# Altium integrated library Wuerth Elektronik SMD Power Choke.IntLib: 844 symbols (part 4 of 9)
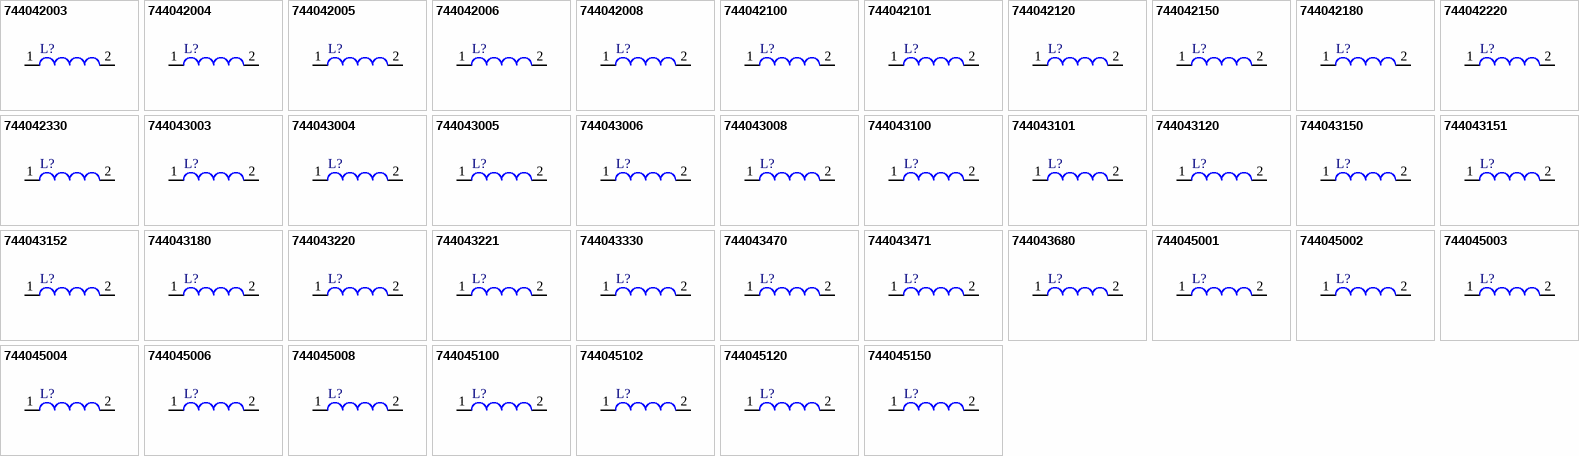
[diagram p25: symbols 744042003 to 744045150]

## 744042330
designator L?
SMD Shielded Tiny Power Inductor WE-TPC, L = 33.0 µH; Inductance: 33.0 µH; DatasheetVersion: ver 6, Aug-2010; PackageVersion: 2010; PackageReference: WE-TPC-4818-M; PackageDescription: SMD Inductor, 2-Leads, Body 4.8 x 4.8 mm; ComponentLink1Description: Manufacturer URL; ComponentLink1URL: http://www.we-online.com; ComponentLink2Description: Datasheet; ComponentLink2URL: http://www.we-online.de/katalog/media/pdf/744042330.pdf
footprint WE-TPC-4818-M (SMD Inductor, 2-Leads, Body 4.8x4.8x2.0 mm)
pins: 1, 2

## 744043003
designator L?
SMD Shielded Tiny Power Inductor WE-TPC, L = 3.30µH; DatasheetVersion: ver 6, Aug-2010; PackageVersion: 2010; PackageReference: WE-TPC-4828-MH; PackageDescription: SMD Inductor, 2-Leads, Body 4.8 x 4.8 mm; Inductance: 3.30 µH; ComponentLink1Description: Manufacturer URL; ComponentLink1URL: http://www.we-online.com; ComponentLink2Description: Datasheet; ComponentLink2URL: http://www.we-online.de/katalog/media/pdf/744043003.pdf
footprint WE-TPC-4828-MH (SMD Inductor, 2-Leads, Body 4.8x4.8x3.0 mm)
pins: 1, 2

## 744043004
designator L?
SMD Shielded Tiny Power Inductor WE-TPC, L = 4.70 µH; Inductance: 4.70 µH; DatasheetVersion: ver 6, Aug-2010; PackageVersion: 2010; PackageReference: WE-TPC-4828-MH; PackageDescription: SMD Inductor, 2-Leads, Body 4.8 x 4.8 mm; ComponentLink1Description: Manufacturer URL; ComponentLink1URL: http://www.we-online.com; ComponentLink2Description: Datasheet; ComponentLink2URL: http://www.we-online.de/katalog/media/pdf/744043004.pdf
footprint WE-TPC-4828-MH (SMD Inductor, 2-Leads, Body 4.8x4.8x3.0 mm)
pins: 1, 2

## 744043005
designator L?
SMD Shielded Tiny Power Inductor WE-TPC, L = 5.60 µH; Inductance: 5.60 µH; DatasheetVersion: ver 6, Aug-2010; PackageVersion: 2010; PackageReference: WE-TPC-4828-MH; PackageDescription: SMD Inductor, 2-Leads, Body 4.8 x 4.8 mm; ComponentLink1Description: Manufacturer URL; ComponentLink1URL: http://www.we-online.com; ComponentLink2Description: Datasheet; ComponentLink2URL: http://www.we-online.de/katalog/media/pdf/744043005.pdf
footprint WE-TPC-4828-MH (SMD Inductor, 2-Leads, Body 4.8x4.8x3.0 mm)
pins: 1, 2

## 744043006
designator L?
SMD Shielded Tiny Power Inductor WE-TPC, L = 6.80 µH; Inductance: 6.80 µH; DatasheetVersion: ver 6, Aug-2010; PackageVersion: 2010; PackageReference: WE-TPC-4828-MH; PackageDescription: SMD Inductor, 2-Leads, Body 4.8 x 4.8 mm; ComponentLink1Description: Manufacturer URL; ComponentLink1URL: http://www.we-online.com; ComponentLink2Description: Datasheet; ComponentLink2URL: http://www.we-online.de/katalog/media/pdf/744043006.pdf
footprint WE-TPC-4828-MH (SMD Inductor, 2-Leads, Body 4.8x4.8x3.0 mm)
pins: 1, 2

## 744043008
designator L?
SMD Shielded Tiny Power Inductor WE-TPC, L = 8.20 µH; Inductance: 8.20 µH; DatasheetVersion: ver 6, Aug-2010; PackageVersion: 2010; PackageReference: WE-TPC-4828-MH; PackageDescription: SMD Inductor, 2-Leads, Body 4.8 x 4.8 mm; ComponentLink1Description: Manufacturer URL; ComponentLink1URL: http://www.we-online.com; ComponentLink2Description: Datasheet; ComponentLink2URL: http://www.we-online.de/katalog/media/pdf/744043008.pdf
footprint WE-TPC-4828-MH (SMD Inductor, 2-Leads, Body 4.8x4.8x3.0 mm)
pins: 1, 2

## 744043100
designator L?
SMD Shielded Tiny Power Inductor WE-TPC, L = 10.0 µH; Inductance: 10.0 µH; DatasheetVersion: ver 6, Aug-2010; PackageVersion: 2010; PackageReference: WE-TPC-4828-MH; PackageDescription: SMD Inductor, 2-Leads, Body 4.8 x 4.8 mm; ComponentLink1Description: Manufacturer URL; ComponentLink1URL: http://www.we-online.com; ComponentLink2Description: Datasheet; ComponentLink2URL: http://www.we-online.de/katalog/media/pdf/744043100.pdf
footprint WE-TPC-4828-MH (SMD Inductor, 2-Leads, Body 4.8x4.8x3.0 mm)
pins: 1, 2

## 744043101
designator L?
SMD Shielded Tiny Power Inductor WE-TPC, L = 100 µH; Inductance: 100 µH; DatasheetVersion: ver 6, Aug-2010; PackageVersion: 2010; PackageReference: WE-TPC-4828-MH; PackageDescription: SMD Inductor, 2-Leads, Body 4.8 x 4.8 mm; ComponentLink1Description: Manufacturer URL; ComponentLink1URL: http://www.we-online.com; ComponentLink2Description: Datasheet; ComponentLink2URL: http://www.we-online.de/katalog/media/pdf/744043101.pdf
footprint WE-TPC-4828-MH (SMD Inductor, 2-Leads, Body 4.8x4.8x3.0 mm)
pins: 1, 2

## 744043120
designator L?
SMD Shielded Tiny Power Inductor WE-TPC, L = 12.0 µH; Inductance: 12.0 µH; DatasheetVersion: ver 6, Aug-2010; PackageVersion: 2010; PackageReference: WE-TPC-4828-MH; PackageDescription: SMD Inductor, 2-Leads, Body 4.8 x 4.8 mm; ComponentLink1Description: Manufacturer URL; ComponentLink1URL: http://www.we-online.com; ComponentLink2Description: Datasheet; ComponentLink2URL: http://www.we-online.de/katalog/media/pdf/744043120.pdf
footprint WE-TPC-4828-MH (SMD Inductor, 2-Leads, Body 4.8x4.8x3.0 mm)
pins: 1, 2

## 744043150
designator L?
SMD Shielded Tiny Power Inductor WE-TPC, L = 15.0 µH; Inductance: 15.0 µH; DatasheetVersion: ver 6, Aug-2010; PackageVersion: 2010; PackageReference: WE-TPC-4828-MH; PackageDescription: SMD Inductor, 2-Leads, Body 4.8 x 4.8 mm; ComponentLink1Description: Manufacturer URL; ComponentLink1URL: http://www.we-online.com; ComponentLink2Description: Datasheet; ComponentLink2URL: http://www.we-online.de/katalog/media/pdf/744043150.pdf
footprint WE-TPC-4828-MH (SMD Inductor, 2-Leads, Body 4.8x4.8x3.0 mm)
pins: 1, 2

## 744043151
designator L?
SMD Shielded Tiny Power Inductor WE-TPC, L = 150 µH; Inductance: 150 µH; DatasheetVersion: ver 6, Aug-2010; PackageVersion: 2010; PackageReference: WE-TPC-4828-MH; PackageDescription: SMD Inductor, 2-Leads, Body 4.8 x 4.8 mm; ComponentLink1Description: Manufacturer URL; ComponentLink1URL: http://www.we-online.com; ComponentLink2Description: Datasheet; ComponentLink2URL: http://www.we-online.de/katalog/media/pdf/744043151.pdf
footprint WE-TPC-4828-MH (SMD Inductor, 2-Leads, Body 4.8x4.8x3.0 mm)
pins: 1, 2

## 744043152
designator L?
SMD Shielded Tiny Power Inductor WE-TPC, L = 1500 µH; Inductance: 1500 µH; DatasheetVersion: ver 6, Aug-2010; PackageVersion: 2010; PackageReference: WE-TPC-4828-MH; PackageDescription: SMD Inductor, 2-Leads, Body 4.8 x 4.8 mm; ComponentLink1Description: Manufacturer URL; ComponentLink1URL: http://www.we-online.com; ComponentLink2Description: Datasheet; ComponentLink2URL: http://www.we-online.de/katalog/media/pdf/744043152.pdf
footprint WE-TPC-4828-MH (SMD Inductor, 2-Leads, Body 4.8x4.8x3.0 mm)
pins: 1, 2

## 744043180
designator L?
SMD Shielded Tiny Power Inductor WE-TPC, L = 18.0 µH; Inductance: 18.0 µH; DatasheetVersion: ver 6, Aug-2010; PackageVersion: 2010; PackageReference: WE-TPC-4828-MH; PackageDescription: SMD Inductor, 2-Leads, Body 4.8 x 4.8 mm; ComponentLink1Description: Manufacturer URL; ComponentLink1URL: http://www.we-online.com; ComponentLink2Description: Datasheet; ComponentLink2URL: http://www.we-online.de/katalog/media/pdf/744043180.pdf
footprint WE-TPC-4828-MH (SMD Inductor, 2-Leads, Body 4.8x4.8x3.0 mm)
pins: 1, 2

## 744043220
designator L?
SMD Shielded Tiny Power Inductor WE-TPC, L = 22.0 µH; Inductance: 22.0 µH; DatasheetVersion: ver 6, Aug-2010; PackageVersion: 2010; PackageReference: WE-TPC-4828-MH; PackageDescription: SMD Inductor, 2-Leads, Body 4.8 x 4.8 mm; ComponentLink1Description: Manufacturer URL; ComponentLink1URL: http://www.we-online.com; ComponentLink2Description: Datasheet; ComponentLink2URL: http://www.we-online.de/katalog/media/pdf/744043220.pdf
footprint WE-TPC-4828-MH (SMD Inductor, 2-Leads, Body 4.8x4.8x3.0 mm)
pins: 1, 2

## 744043221
designator L?
SMD Shielded Tiny Power Inductor WE-TPC, L = 220 µH; Inductance: 220 µH; DatasheetVersion: ver 6, Aug-2010; PackageVersion: 2010; PackageReference: WE-TPC-4828-MH; PackageDescription: SMD Inductor, 2-Leads, Body 4.8 x 4.8 mm; ComponentLink1Description: Manufacturer URL; ComponentLink1URL: http://www.we-online.com; ComponentLink2Description: Datasheet; ComponentLink2URL: http://www.we-online.de/katalog/media/pdf/744043221.pdf
footprint WE-TPC-4828-MH (SMD Inductor, 2-Leads, Body 4.8x4.8x3.0 mm)
pins: 1, 2

## 744043330
designator L?
SMD Shielded Tiny Power Inductor WE-TPC, L = 33.0 µH; Inductance: 33.0 µH; DatasheetVersion: ver 6, Aug-2010; PackageVersion: 2010; PackageReference: WE-TPC-4828-MH; PackageDescription: SMD Inductor, 2-Leads, Body 4.8 x 4.8 mm; ComponentLink1Description: Manufacturer URL; ComponentLink1URL: http://www.we-online.com; ComponentLink2Description: Datasheet; ComponentLink2URL: http://www.we-online.de/katalog/media/pdf/744043330.pdf
footprint WE-TPC-4828-MH (SMD Inductor, 2-Leads, Body 4.8x4.8x3.0 mm)
pins: 1, 2

## 744043470
designator L?
SMD Shielded Tiny Power Inductor WE-TPC, L = 47.0 µH; Inductance: 47.0 µH; DatasheetVersion: ver 6, Aug-2010; PackageVersion: 2010; PackageReference: WE-TPC-4828-MH; PackageDescription: SMD Inductor, 2-Leads, Body 4.8 x 4.8 mm; ComponentLink1Description: Manufacturer URL; ComponentLink1URL: http://www.we-online.com; ComponentLink2Description: Datasheet; ComponentLink2URL: http://www.we-online.de/katalog/media/pdf/744043470.pdf
footprint WE-TPC-4828-MH (SMD Inductor, 2-Leads, Body 4.8x4.8x3.0 mm)
pins: 1, 2

## 744043471
designator L?
SMD Shielded Tiny Power Inductor WE-TPC, L = 470 µH; Inductance: 470 µH; DatasheetVersion: ver 6, Aug-2010; PackageVersion: 2010; PackageReference: WE-TPC-4828-MH; PackageDescription: SMD Inductor, 2-Leads, Body 4.8 x 4.8 mm; ComponentLink1Description: Manufacturer URL; ComponentLink1URL: http://www.we-online.com; ComponentLink2Description: Datasheet; ComponentLink2URL: http://www.we-online.de/katalog/media/pdf/744043471.pdf
footprint WE-TPC-4828-MH (SMD Inductor, 2-Leads, Body 4.8x4.8x3.0 mm)
pins: 1, 2

## 744043680
designator L?
SMD Shielded Tiny Power Inductor WE-TPC, L = 68.0 µH; Inductance: 68.0 µH; DatasheetVersion: ver 6, Aug-2010; PackageVersion: 2010; PackageReference: WE-TPC-4828-MH; PackageDescription: SMD Inductor, 2-Leads, Body 4.8 x 4.8 mm; ComponentLink1Description: Manufacturer URL; ComponentLink1URL: http://www.we-online.com; ComponentLink2Description: Datasheet; ComponentLink2URL: http://www.we-online.de/katalog/media/pdf/744043680.pdf
footprint WE-TPC-4828-MH (SMD Inductor, 2-Leads, Body 4.8x4.8x3.0 mm)
pins: 1, 2

## 744045001
designator L?
SMD-RF-Inductor WE-LQ, L = 1.00 µH; Inductance: 1.00 µH; DatasheetVersion: ver 3, Jul-2006; PackageVersion: 2006; PackageReference: WE-LQ-L; PackageDescription: Inductor, 2-Leads, Body 4.5 x 3.2 mm; ComponentLink1Description: Manufacturer URL; ComponentLink1URL: http://www.we-online.com; ComponentLink2Description: Datasheet; ComponentLink2URL: http://www.we-online.de/katalog/media/pdf/744045001.pdf
footprint WE-LQ-L (Inductor, 2-Leads, Body 4.5x3.2x2.9 mm)
pins: 1, 2

## 744045002
designator L?
SMD-RF-Inductor WE-LQ, L = 2.20 µH; Inductance: 2.20 µH; DatasheetVersion: ver 3, Jul-2006; PackageVersion: 2006; PackageReference: WE-LQ-L; PackageDescription: Inductor, 2-Leads, Body 4.5 x 3.2 mm; ComponentLink1Description: Manufacturer URL; ComponentLink1URL: http://www.we-online.com; ComponentLink2Description: Datasheet; ComponentLink2URL: http://www.we-online.de/katalog/media/pdf/744045002.pdf
footprint WE-LQ-L (Inductor, 2-Leads, Body 4.5x3.2x2.9 mm)
pins: 1, 2

## 744045003
designator L?
SMD-RF-Inductor WE-LQ, L = 3.30 µH; Inductance: 3.30 µH; DatasheetVersion: ver 3, Jul-2006; PackageVersion: 2006; PackageReference: WE-LQ-L; PackageDescription: Inductor, 2-Leads, Body 4.5 x 3.2 mm; ComponentLink1Description: Manufacturer URL; ComponentLink1URL: http://www.we-online.com; ComponentLink2Description: Datasheet; ComponentLink2URL: http://www.we-online.de/katalog/media/pdf/744045003.pdf
footprint WE-LQ-L (Inductor, 2-Leads, Body 4.5x3.2x2.9 mm)
pins: 1, 2

## 744045004
designator L?
SMD-RF-Inductor WE-LQ, L = 4.70 µH; Inductance: 4.70 µH; DatasheetVersion: ver 3, Jul-2006; PackageVersion: 2006; PackageReference: WE-LQ-L; PackageDescription: Inductor, 2-Leads, Body 4.5 x 3.2 mm; ComponentLink1Description: Manufacturer URL; ComponentLink1URL: http://www.we-online.com; ComponentLink2Description: Datasheet; ComponentLink2URL: http://www.we-online.de/katalog/media/pdf/744045004.pdf
footprint WE-LQ-L (Inductor, 2-Leads, Body 4.5x3.2x2.9 mm)
pins: 1, 2

## 744045006
designator L?
SMD-RF-Inductor WE-LQ, L = 6.80 µH; Inductance: 6.80 µH; DatasheetVersion: ver 3, Jul-2006; PackageVersion: 2006; PackageReference: WE-LQ-L; PackageDescription: Inductor, 2-Leads, Body 4.5 x 3.2 mm; ComponentLink1Description: Manufacturer URL; ComponentLink1URL: http://www.we-online.com; ComponentLink2Description: Datasheet; ComponentLink2URL: http://www.we-online.de/katalog/media/pdf/744045006.pdf
footprint WE-LQ-L (Inductor, 2-Leads, Body 4.5x3.2x2.9 mm)
pins: 1, 2

## 744045008
designator L?
SMD-RF-Inductor WE-LQ, L = 8.20 µH; Inductance: 8.20 µH; DatasheetVersion: ver 3, Jul-2006; PackageVersion: 2006; PackageReference: WE-LQ-L; PackageDescription: Inductor, 2-Leads, Body 4.5 x 3.2 mm; ComponentLink1Description: Manufacturer URL; ComponentLink1URL: http://www.we-online.com; ComponentLink2Description: Datasheet; ComponentLink2URL: http://www.we-online.de/katalog/media/pdf/744045008.pdf
footprint WE-LQ-L (Inductor, 2-Leads, Body 4.5x3.2x2.9 mm)
pins: 1, 2

## 744045100
designator L?
SMD-RF-Inductor WE-LQ, L = 10.0 µH; Inductance: 10.0 µH; DatasheetVersion: ver 3, Jul-2006; PackageVersion: 2006; PackageReference: WE-LQ-L; PackageDescription: Inductor, 2-Leads, Body 4.5 x 3.2 mm; ComponentLink1Description: Manufacturer URL; ComponentLink1URL: http://www.we-online.com; ComponentLink2Description: Datasheet; ComponentLink2URL: http://www.we-online.de/katalog/media/pdf/744045100.pdf
footprint WE-LQ-L (Inductor, 2-Leads, Body 4.5x3.2x2.9 mm)
pins: 1, 2

## 744045102
designator L?
SMD-RF-Inductor WE-LQ, L = 1000 µH; Inductance: 1000 µH; DatasheetVersion: ver 4, Oct-2008; PackageVersion: 2006; PackageReference: WE-LQ-L; PackageDescription: Inductor, 2-Leads, Body 4.5 x 3.2 mm; ComponentLink1Description: Manufacturer URL; ComponentLink1URL: http://www.we-online.com; ComponentLink2Description: Datasheet; ComponentLink2URL: http://www.we-online.de/katalog/media/pdf/744045102.pdf
footprint WE-LQ-L (Inductor, 2-Leads, Body 4.5x3.2x2.9 mm)
pins: 1, 2

## 744045120
designator L?
SMD-RF-Inductor WE-LQ, L = 12.0 µH; Inductance: 12.0 µH; DatasheetVersion: ver 3, Jul-2006; PackageVersion: 2006; PackageReference: WE-LQ-L; PackageDescription: Inductor, 2-Leads, Body 4.5 x 3.2 mm; ComponentLink1Description: Manufacturer URL; ComponentLink1URL: http://www.we-online.com; ComponentLink2Description: Datasheet; ComponentLink2URL: http://www.we-online.de/katalog/media/pdf/744045120.pdf
footprint WE-LQ-L (Inductor, 2-Leads, Body 4.5x3.2x2.9 mm)
pins: 1, 2

## 744045150
designator L?
SMD-RF-Inductor WE-LQ, L = 15.0 µH; Inductance: 15.0 µH; DatasheetVersion: ver 3, Jul-2006; PackageVersion: 2006; PackageReference: WE-LQ-L; PackageDescription: Inductor, 2-Leads, Body 4.5 x 3.2 mm; ComponentLink1Description: Manufacturer URL; ComponentLink1URL: http://www.we-online.com; ComponentLink2Description: Datasheet; ComponentLink2URL: http://www.we-online.de/katalog/media/pdf/744045150.pdf
footprint WE-LQ-L (Inductor, 2-Leads, Body 4.5x3.2x2.9 mm)
pins: 1, 2

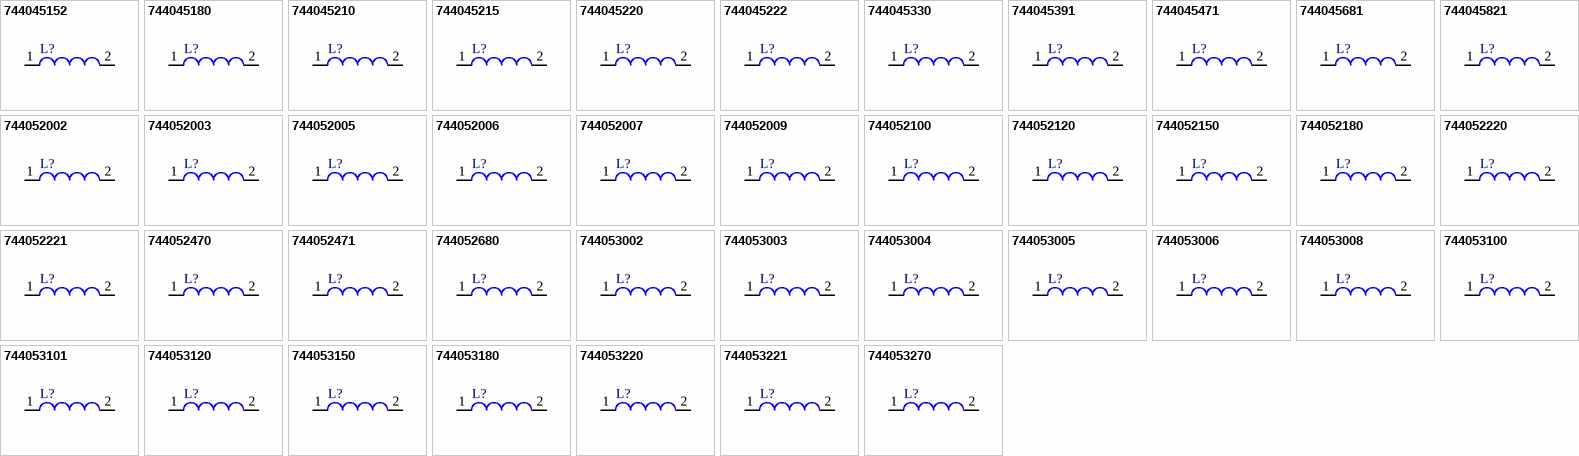
[diagram p8: symbols 744045152 to 744053270]

## 744045152
designator L?
SMD-RF-Inductor WE-LQ, L = 1500 µH; Inductance: 1500 µH; DatasheetVersion: ver 3, Jul-2006; PackageVersion: 2006; PackageReference: WE-LQ-L; PackageDescription: Inductor, 2-Leads, Body 4.5 x 3.2 mm; ComponentLink1Description: Manufacturer URL; ComponentLink1URL: http://www.we-online.com; ComponentLink2Description: Datasheet; ComponentLink2URL: http://www.we-online.de/katalog/media/pdf/744045152.pdf
footprint WE-LQ-L (Inductor, 2-Leads, Body 4.5x3.2x2.9 mm)
pins: 1, 2

## 744045180
designator L?
SMD-RF-Inductor WE-LQ, L = 18.0 µH; Inductance: 18.0 µH; DatasheetVersion: ver 3, Jul-2006; PackageVersion: 2006; PackageReference: WE-LQ-L; PackageDescription: Inductor, 2-Leads, Body 4.5 x 3.2 mm; ComponentLink1Description: Manufacturer URL; ComponentLink1URL: http://www.we-online.com; ComponentLink2Description: Datasheet; ComponentLink2URL: http://www.we-online.de/katalog/media/pdf/744045180.pdf
footprint WE-LQ-L (Inductor, 2-Leads, Body 4.5x3.2x2.9 mm)
pins: 1, 2

## 744045210
designator L?
SMD-RF-Inductor WE-LQ, L = 100.0 µH; DatasheetVersion: ver 3, Jul-2006; PackageVersion: 2006; PackageReference: WE-LQ-L; PackageDescription: Inductor, 2-Leads, Body 4.5 x 3.2 mm; Inductance: 100.0 µH; ComponentLink1Description: Manufacturer URL; ComponentLink1URL: http://www.we-online.com; ComponentLink2Description: Datasheet; ComponentLink2URL: http://www.we-online.de/katalog/media/pdf/744045210.pdf
footprint WE-LQ-L (Inductor, 2-Leads, Body 4.5x3.2x2.9 mm)
pins: 1, 2

## 744045215
designator L?
SMD-RF-Inductor WE-LQ, L = 150.0 µH; DatasheetVersion: ver 3, Jul-2006; PackageVersion: 2006; PackageReference: WE-LQ-L; PackageDescription: Inductor, 2-Leads, Body 4.5 x 3.2 mm; Inductance: 150.0 µH; ComponentLink1Description: Manufacturer URL; ComponentLink1URL: http://www.we-online.com; ComponentLink2Description: Datasheet; ComponentLink2URL: http://www.we-online.de/katalog/media/pdf/744045215.pdf
footprint WE-LQ-L (Inductor, 2-Leads, Body 4.5x3.2x2.9 mm)
pins: 1, 2

## 744045220
designator L?
SMD-RF-Inductor WE-LQ, L = 22.0 µH; Inductance: 22.0 µH; DatasheetVersion: ver 3, Jul-2006; PackageVersion: 2006; PackageReference: WE-LQ-L; PackageDescription: Inductor, 2-Leads, Body 4.5 x 3.2 mm; ComponentLink1Description: Manufacturer URL; ComponentLink1URL: http://www.we-online.com; ComponentLink2Description: Datasheet; ComponentLink2URL: http://www.we-online.de/katalog/media/pdf/744045220.pdf
footprint WE-LQ-L (Inductor, 2-Leads, Body 4.5x3.2x2.9 mm)
pins: 1, 2

## 744045222
designator L?
SMD-RF-Inductor WE-LQ, L = 2200 µH; Inductance: 2200 µH; DatasheetVersion: ver 3, Jul-2006; PackageVersion: 2006; PackageReference: WE-LQ-L; PackageDescription: Inductor, 2-Leads, Body 4.5 x 3.2 mm; ComponentLink1Description: Manufacturer URL; ComponentLink1URL: http://www.we-online.com; ComponentLink2Description: Datasheet; ComponentLink2URL: http://www.we-online.de/katalog/media/pdf/744045222.pdf
footprint WE-LQ-L (Inductor, 2-Leads, Body 4.5x3.2x2.9 mm)
pins: 1, 2

## 744045330
designator L?
SMD-RF-Inductor WE-LQ, L = 33.0 µH; Inductance: 33.0 µH; DatasheetVersion: ver 3, Jul-2006; PackageVersion: 2006; PackageReference: WE-LQ-L; PackageDescription: Inductor, 2-Leads, Body 4.5 x 3.2 mm; ComponentLink1Description: Manufacturer URL; ComponentLink1URL: http://www.we-online.com; ComponentLink2Description: Datasheet; ComponentLink2URL: http://www.we-online.de/katalog/media/pdf/744045330.pdf
footprint WE-LQ-L (Inductor, 2-Leads, Body 4.5x3.2x2.9 mm)
pins: 1, 2

## 744045391
designator L?
SMD-RF-Inductor WE-LQ, L = 390.0 µH; DatasheetVersion: ver 3, Jul-2006; PackageVersion: 2006; PackageReference: WE-LQ-L; PackageDescription: Inductor, 2-Leads, Body 4.5 x 3.2 mm; Inductance: 390.0 µH; ComponentLink1Description: Manufacturer URL; ComponentLink1URL: http://www.we-online.com; ComponentLink2Description: Datasheet; ComponentLink2URL: http://www.we-online.de/katalog/media/pdf/744045391.pdf
footprint WE-LQ-L (Inductor, 2-Leads, Body 4.5x3.2x2.9 mm)
pins: 1, 2

## 744045471
designator L?
SMD-RF-Inductor WE-LQ, L = 470.0 µH; DatasheetVersion: ver 3, Jul-2006; PackageVersion: 2006; PackageReference: WE-LQ-L; PackageDescription: Inductor, 2-Leads, Body 4.5 x 3.2 mm; Inductance: 470.0 µH; ComponentLink1Description: Manufacturer URL; ComponentLink1URL: http://www.we-online.com; ComponentLink2Description: Datasheet; ComponentLink2URL: http://www.we-online.de/katalog/media/pdf/744045471.pdf
footprint WE-LQ-L (Inductor, 2-Leads, Body 4.5x3.2x2.9 mm)
pins: 1, 2

## 744045681
designator L?
SMD-RF-Inductor WE-LQ, L = 680.0 µH; DatasheetVersion: ver 4, Oct-2008; PackageVersion: 2006; PackageReference: WE-LQ-L; PackageDescription: Inductor, 2-Leads, Body 4.5 x 3.2 mm; Inductance: 680.0 µH; ComponentLink1Description: Manufacturer URL; ComponentLink1URL: http://www.we-online.com; ComponentLink2Description: Datasheet; ComponentLink2URL: http://www.we-online.de/katalog/media/pdf/744045681.pdf
footprint WE-LQ-L (Inductor, 2-Leads, Body 4.5x3.2x2.9 mm)
pins: 1, 2

## 744045821
designator L?
SMD-RF-Inductor WE-LQ, L = 820.0 µH; DatasheetVersion: Jul-2006; PackageVersion: 2006; PackageReference: WE-LQ-L; PackageDescription: Inductor, 2-Leads, Body 4.5 x 3.2 mm; Inductance: 820.0 µH; ComponentLink1Description: Manufacturer URL; ComponentLink1URL: http://www.we-online.com; ComponentLink2Description: Datasheet; ComponentLink2URL: http://www.we-online.de/katalog/media/pdf/744045821.pdf
footprint WE-LQ-L (Inductor, 2-Leads, Body 4.5x3.2x2.9 mm)
pins: 1, 2

## 744052002
designator L?
SMD Shielded Tiny Power Inductor WE-TPC, L = 2.50 µH; Inductance: 2.50 µH; DatasheetVersion: ver 7, Aug-2010; PackageVersion: 2010; PackageReference: WE-TPC-5818-L; PackageDescription: SMD Inductor, 2-Leads, Body 5.8 x 5.8 mm; ComponentLink1Description: Manufacturer URL; ComponentLink1URL: http://www.we-online.com; ComponentLink2Description: Datasheet; ComponentLink2URL: http://www.we-online.de/katalog/media/pdf/744052002.pdf
footprint WE-TPC-5818-L (SMD Inductor, 2-Leads, Body 5.8x5.8x2.0 mm)
pins: 1, 2

## 744052003
designator L?
SMD Shielded Tiny Power Inductor WE-TPC, L = 3.00 µH; Inductance: 3.00 µH; DatasheetVersion: ver 7, Aug-2010; PackageVersion: 2010; PackageReference: WE-TPC-5818-L; PackageDescription: SMD Inductor, 2-Leads, Body 5.8 x 5.8 mm; ComponentLink1Description: Manufacturer URL; ComponentLink1URL: http://www.we-online.com; ComponentLink2Description: Datasheet; ComponentLink2URL: http://www.we-online.de/katalog/media/pdf/744052003.pdf
footprint WE-TPC-5818-L (SMD Inductor, 2-Leads, Body 5.8x5.8x2.0 mm)
pins: 1, 2

## 744052005
designator L?
SMD Shielded Tiny Power Inductor WE-TPC, L = 5.00 µH; Inductance: 5.00 µH; DatasheetVersion: ver 7, Aug-2010; PackageVersion: 2010; PackageReference: WE-TPC-5818-L; PackageDescription: SMD Inductor, 2-Leads, Body 5.8 x 5.8 mm; ComponentLink1Description: Manufacturer URL; ComponentLink1URL: http://www.we-online.com; ComponentLink2Description: Datasheet; ComponentLink2URL: http://www.we-online.de/katalog/media/pdf/744052005.pdf
footprint WE-TPC-5818-L (SMD Inductor, 2-Leads, Body 5.8x5.8x2.0 mm)
pins: 1, 2

## 744052006
designator L?
SMD Shielded Tiny Power Inductor WE-TPC, L = 6.20 µH; Inductance: 6.20 µH; DatasheetVersion: ver 7, Aug-2010; PackageVersion: 2010; PackageReference: WE-TPC-5818-L; PackageDescription: SMD Inductor, 2-Leads, Body 5.8 x 5.8 mm; ComponentLink1Description: Manufacturer URL; ComponentLink1URL: http://www.we-online.com; ComponentLink2Description: Datasheet; ComponentLink2URL: http://www.we-online.de/katalog/media/pdf/744052006.pdf
footprint WE-TPC-5818-L (SMD Inductor, 2-Leads, Body 5.8x5.8x2.0 mm)
pins: 1, 2

## 744052007
designator L?
SMD Shielded Tiny Power Inductor WE-TPC, L = 7.50 µH; Inductance: 7.50 µH; DatasheetVersion: ver 7, Aug-2010; PackageVersion: 2010; PackageReference: WE-TPC-5818-L; PackageDescription: SMD Inductor, 2-Leads, Body 5.8 x 5.8 mm; ComponentLink1Description: Manufacturer URL; ComponentLink1URL: http://www.we-online.com; ComponentLink2Description: Datasheet; ComponentLink2URL: http://www.we-online.de/katalog/media/pdf/744052007.pdf
footprint WE-TPC-5818-L (SMD Inductor, 2-Leads, Body 5.8x5.8x2.0 mm)
pins: 1, 2

## 744052009
designator L?
SMD Shielded Tiny Power Inductor WE-TPC, L = 9.00 µH; Inductance: 9.00 µH; DatasheetVersion: ver 7, Aug-2010; PackageVersion: 2010; PackageReference: WE-TPC-5818-L; PackageDescription: SMD Inductor, 2-Leads, Body 5.8 x 5.8 mm; ComponentLink1Description: Manufacturer URL; ComponentLink1URL: http://www.we-online.com; ComponentLink2Description: Datasheet; ComponentLink2URL: http://www.we-online.de/katalog/media/pdf/744052009.pdf
footprint WE-TPC-5818-L (SMD Inductor, 2-Leads, Body 5.8x5.8x2.0 mm)
pins: 1, 2

## 744052100
designator L?
SMD Shielded Tiny Power Inductor WE-TPC, L = 10.0 µH; Inductance: 10.0 µH; DatasheetVersion: ver 7, Aug-2010; PackageVersion: 2010; PackageReference: WE-TPC-5818-L; PackageDescription: SMD Inductor, 2-Leads, Body 5.8 x 5.8 mm; ComponentLink1Description: Manufacturer URL; ComponentLink1URL: http://www.we-online.com; ComponentLink2Description: Datasheet; ComponentLink2URL: http://www.we-online.de/katalog/media/pdf/744052100.pdf
footprint WE-TPC-5818-L (SMD Inductor, 2-Leads, Body 5.8x5.8x2.0 mm)
pins: 1, 2

## 744052120
designator L?
SMD Shielded Tiny Power Inductor WE-TPC, L = 12.0 µH; Inductance: 12.0 µH; DatasheetVersion: ver 7, Aug-2010; PackageVersion: 2010; PackageReference: WE-TPC-5818-L; PackageDescription: SMD Inductor, 2-Leads, Body 5.8 x 5.8 mm; ComponentLink1Description: Manufacturer URL; ComponentLink1URL: http://www.we-online.com; ComponentLink2Description: Datasheet; ComponentLink2URL: http://www.we-online.de/katalog/media/pdf/744052120.pdf
footprint WE-TPC-5818-L (SMD Inductor, 2-Leads, Body 5.8x5.8x2.0 mm)
pins: 1, 2

## 744052150
designator L?
SMD Shielded Tiny Power Inductor WE-TPC, L = 15.0 µH; Inductance: 15.0 µH; DatasheetVersion: ver 7, Aug-2010; PackageVersion: 2010; PackageReference: WE-TPC-5818-L; PackageDescription: SMD Inductor, 2-Leads, Body 5.8 x 5.8 mm; ComponentLink1Description: Manufacturer URL; ComponentLink1URL: http://www.we-online.com; ComponentLink2Description: Datasheet; ComponentLink2URL: http://www.we-online.de/katalog/media/pdf/744052150.pdf
footprint WE-TPC-5818-L (SMD Inductor, 2-Leads, Body 5.8x5.8x2.0 mm)
pins: 1, 2

## 744052180
designator L?
SMD Shielded Tiny Power Inductor WE-TPC, L = 18.0 µH; Inductance: 18.0 µH; DatasheetVersion: ver 7, Aug-2010; PackageVersion: 2010; PackageReference: WE-TPC-5818-L; PackageDescription: SMD Inductor, 2-Leads, Body 5.8 x 5.8 mm; ComponentLink1Description: Manufacturer URL; ComponentLink1URL: http://www.we-online.com; ComponentLink2Description: Datasheet; ComponentLink2URL: http://www.we-online.de/katalog/media/pdf/744052180.pdf
footprint WE-TPC-5818-L (SMD Inductor, 2-Leads, Body 5.8x5.8x2.0 mm)
pins: 1, 2

## 744052220
designator L?
SMD Shielded Tiny Power Inductor WE-TPC, L = 22.0 µH; Inductance: 22.0 µH; DatasheetVersion: ver 7, Aug-2010; PackageVersion: 2010; PackageReference: WE-TPC-5818-L; PackageDescription: SMD Inductor, 2-Leads, Body 5.8 x 5.8 mm; ComponentLink1Description: Manufacturer URL; ComponentLink1URL: http://www.we-online.com; ComponentLink2Description: Datasheet; ComponentLink2URL: http://www.we-online.de/katalog/media/pdf/744052220.pdf
footprint WE-TPC-5818-L (SMD Inductor, 2-Leads, Body 5.8x5.8x2.0 mm)
pins: 1, 2

## 744052221
designator L?
SMD Shielded Tiny Power Inductor WE-TPC, L = 220 µH; Inductance: 220 µH; DatasheetVersion: ver 7, Aug-2010; PackageVersion: 2010; PackageReference: WE-TPC-5818-L; PackageDescription: SMD Inductor, 2-Leads, Body 5.8 x 5.8 mm; ComponentLink1Description: Manufacturer URL; ComponentLink1URL: http://www.we-online.com; ComponentLink2Description: Datasheet; ComponentLink2URL: http://www.we-online.de/katalog/media/pdf/744052221.pdf
footprint WE-TPC-5818-L (SMD Inductor, 2-Leads, Body 5.8x5.8x2.0 mm)
pins: 1, 2

## 744052470
designator L?
SMD Shielded Tiny Power Inductor WE-TPC, L = 47.0 µH; Inductance: 47.0 µH; DatasheetVersion: ver 7, Aug-2010; PackageVersion: 2010; PackageReference: WE-TPC-5818-L; PackageDescription: SMD Inductor, 2-Leads, Body 5.8 x 5.8 mm; ComponentLink1Description: Manufacturer URL; ComponentLink1URL: http://www.we-online.com; ComponentLink2Description: Datasheet; ComponentLink2URL: http://www.we-online.de/katalog/media/pdf/744052470.pdf
footprint WE-TPC-5818-L (SMD Inductor, 2-Leads, Body 5.8x5.8x2.0 mm)
pins: 1, 2

## 744052471
designator L?
SMD Shielded Tiny Power Inductor WE-TPC, L = 470 µH; Inductance: 470 µH; DatasheetVersion: ver 7, Aug-2010; PackageVersion: 2010; PackageReference: WE-TPC-5818-L; PackageDescription: SMD Inductor, 2-Leads, Body 5.8 x 5.8 mm; ComponentLink1Description: Manufacturer URL; ComponentLink1URL: http://www.we-online.com; ComponentLink2Description: Datasheet; ComponentLink2URL: http://www.we-online.de/katalog/media/pdf/744052471.pdf
footprint WE-TPC-5818-L (SMD Inductor, 2-Leads, Body 5.8x5.8x2.0 mm)
pins: 1, 2

## 744052680
designator L?
SMD Shielded Tiny Power Inductor WE-TPC, L = 68.0 µH; Inductance: 68.0 µH; DatasheetVersion: ver 7, Aug-2010; PackageVersion: 2010; PackageReference: WE-TPC-5818-L; PackageDescription: SMD Inductor, 2-Leads, Body 5.8 x 5.8 mm; ComponentLink1Description: Manufacturer URL; ComponentLink1URL: http://www.we-online.com; ComponentLink2Description: Datasheet; ComponentLink2URL: http://www.we-online.de/katalog/media/pdf/744052680.pdf
footprint WE-TPC-5818-L (SMD Inductor, 2-Leads, Body 5.8x5.8x2.0 mm)
pins: 1, 2

## 744053002
designator L?
SMD Shielded Tiny Power Inductor WE-TPC, L = 2.60 µH; Inductance: 2.60 µH; DatasheetVersion: ver 6, Aug-2010; PackageVersion: 2010; PackageReference: WE-TPC-5828-LH; PackageDescription: SMD Inductor, 2-Leads, Body 5.8 x 5.8 mm; ComponentLink1Description: Manufacturer URL; ComponentLink1URL: http://www.we-online.com; ComponentLink2Description: Datasheet; ComponentLink2URL: http://www.we-online.de/katalog/media/pdf/744053002.pdf
footprint WE-TPC-5828-LH (SMD Inductor, 2-Leads, Body 5.8x5.8x3.0 mm)
pins: 1, 2

## 744053003
designator L?
SMD Shielded Tiny Power Inductor WE-TPC, L = 3.00 µH; Inductance: 3.00 µH; DatasheetVersion: ver 6, Aug-2010; PackageVersion: 2010; PackageReference: WE-TPC-5828-LH; PackageDescription: SMD Inductor, 2-Leads, Body 5.8 x 5.8 mm; ComponentLink1Description: Manufacturer URL; ComponentLink1URL: http://www.we-online.com; ComponentLink2Description: Datasheet; ComponentLink2URL: http://www.we-online.de/katalog/media/pdf/744053003.pdf
footprint WE-TPC-5828-LH (SMD Inductor, 2-Leads, Body 5.8x5.8x3.0 mm)
pins: 1, 2

## 744053004
designator L?
SMD Shielded Tiny Power Inductor WE-TPC, L = 4.00 µH; Inductance: 4.00 µH; DatasheetVersion: ver 6, Aug-2010; PackageVersion: 2010; PackageReference: WE-TPC-5828-LH; PackageDescription: SMD Inductor, 2-Leads, Body 5.8 x 5.8 mm; ComponentLink1Description: Manufacturer URL; ComponentLink1URL: http://www.we-online.com; ComponentLink2Description: Datasheet; ComponentLink2URL: http://www.we-online.de/katalog/media/pdf/744053004.pdf
footprint WE-TPC-5828-LH (SMD Inductor, 2-Leads, Body 5.8x5.8x3.0 mm)
pins: 1, 2

## 744053005
designator L?
SMD Shielded Tiny Power Inductor WE-TPC, L = 5.30 µH; Inductance: 5.30 µH; DatasheetVersion: ver 6, Aug-2010; PackageVersion: 2010; PackageReference: WE-TPC-5828-LH; PackageDescription: SMD Inductor, 2-Leads, Body 5.8 x 5.8 mm; ComponentLink1Description: Manufacturer URL; ComponentLink1URL: http://www.we-online.com; ComponentLink2Description: Datasheet; ComponentLink2URL: http://www.we-online.de/katalog/media/pdf/744053005.pdf
footprint WE-TPC-5828-LH (SMD Inductor, 2-Leads, Body 5.8x5.8x3.0 mm)
pins: 1, 2

## 744053006
designator L?
SMD Shielded Tiny Power Inductor WE-TPC, L = 6.20 µH; Inductance: 6.20 µH; DatasheetVersion: ver 6, Aug-2010; PackageVersion: 2010; PackageReference: WE-TPC-5828-LH; PackageDescription: SMD Inductor, 2-Leads, Body 5.8 x 5.8 mm; ComponentLink1Description: Manufacturer URL; ComponentLink1URL: http://www.we-online.com; ComponentLink2Description: Datasheet; ComponentLink2URL: http://www.we-online.de/katalog/media/pdf/744053006.pdf
footprint WE-TPC-5828-LH (SMD Inductor, 2-Leads, Body 5.8x5.8x3.0 mm)
pins: 1, 2

## 744053008
designator L?
SMD Shielded Tiny Power Inductor WE-TPC, L = 8.20 µH; Inductance: 8.20 µH; DatasheetVersion: ver 6, Aug-2010; PackageVersion: 2010; PackageReference: WE-TPC-5828-LH; PackageDescription: SMD Inductor, 2-Leads, Body 5.8 x 5.8 mm; ComponentLink1Description: Manufacturer URL; ComponentLink1URL: http://www.we-online.com; ComponentLink2Description: Datasheet; ComponentLink2URL: http://www.we-online.de/katalog/media/pdf/744053008.pdf
footprint WE-TPC-5828-LH (SMD Inductor, 2-Leads, Body 5.8x5.8x3.0 mm)
pins: 1, 2

## 744053100
designator L?
SMD Shielded Tiny Power Inductor WE-TPC, L = 10.0 µH; Inductance: 10.0 µH; DatasheetVersion: ver 6, Aug-2010; PackageVersion: 2010; PackageReference: WE-TPC-5828-LH; PackageDescription: SMD Inductor, 2-Leads, Body 5.8 x 5.8 mm; ComponentLink1Description: Manufacturer URL; ComponentLink1URL: http://www.we-online.com; ComponentLink2Description: Datasheet; ComponentLink2URL: http://www.we-online.de/katalog/media/pdf/744053100.pdf
footprint WE-TPC-5828-LH (SMD Inductor, 2-Leads, Body 5.8x5.8x3.0 mm)
pins: 1, 2

## 744053101
designator L?
SMD Shielded Tiny Power Inductor WE-TPC, L = 100 µH; Inductance: 100 µH; DatasheetVersion: ver 6, Aug-2010; PackageVersion: 2010; PackageReference: WE-TPC-5828-LH; PackageDescription: SMD Inductor, 2-Leads, Body 5.8 x 5.8 mm; ComponentLink1Description: Manufacturer URL; ComponentLink1URL: http://www.we-online.com; ComponentLink2Description: Datasheet; ComponentLink2URL: http://www.we-online.de/katalog/media/pdf/744053101.pdf
footprint WE-TPC-5828-LH (SMD Inductor, 2-Leads, Body 5.8x5.8x3.0 mm)
pins: 1, 2

## 744053120
designator L?
SMD Shielded Tiny Power Inductor WE-TPC, L = 12.0 µH; Inductance: 12.0 µH; DatasheetVersion: ver 6, Aug-2010; PackageVersion: 2010; PackageReference: WE-TPC-5828-LH; PackageDescription: SMD Inductor, 2-Leads, Body 5.8 x 5.8 mm; ComponentLink1Description: Manufacturer URL; ComponentLink1URL: http://www.we-online.com; ComponentLink2Description: Datasheet; ComponentLink2URL: http://www.we-online.de/katalog/media/pdf/744053120.pdf
footprint WE-TPC-5828-LH (SMD Inductor, 2-Leads, Body 5.8x5.8x3.0 mm)
pins: 1, 2

## 744053150
designator L?
SMD Shielded Tiny Power Inductor WE-TPC, L = 15.0 µH; Inductance: 12.0 µH; DatasheetVersion: ver 6, Aug-2010; PackageVersion: 2010; PackageReference: WE-TPC-5828-LH; PackageDescription: SMD Inductor, 2-Leads, Body 5.8 x 5.8 mm; ComponentLink1Description: Manufacturer URL; ComponentLink1URL: http://www.we-online.com; ComponentLink2Description: Datasheet; ComponentLink2URL: http://www.we-online.de/katalog/media/pdf/744053150.pdf
footprint WE-TPC-5828-LH (SMD Inductor, 2-Leads, Body 5.8x5.8x3.0 mm)
pins: 1, 2

## 744053180
designator L?
SMD Shielded Tiny Power Inductor WE-TPC, L = 18.0 µH; Inductance: 18.0 µH; DatasheetVersion: ver 6, Aug-2010; PackageVersion: 2010; PackageReference: WE-TPC-5828-LH; PackageDescription: SMD Inductor, 2-Leads, Body 5.8 x 5.8 mm; ComponentLink1Description: Manufacturer URL; ComponentLink1URL: http://www.we-online.com; ComponentLink2Description: Datasheet; ComponentLink2URL: http://www.we-online.de/katalog/media/pdf/744053180.pdf
footprint WE-TPC-5828-LH (SMD Inductor, 2-Leads, Body 5.8x5.8x3.0 mm)
pins: 1, 2

## 744053220
designator L?
SMD Shielded Tiny Power Inductor WE-TPC, L = 22.0 µH; Inductance: 22.0 µH; DatasheetVersion: ver 6, Aug-2010; PackageVersion: 2010; PackageReference: WE-TPC-5828-LH; PackageDescription: SMD Inductor, 2-Leads, Body 5.8 x 5.8 mm; ComponentLink1Description: Manufacturer URL; ComponentLink1URL: http://www.we-online.com; ComponentLink2Description: Datasheet; ComponentLink2URL: http://www.we-online.de/katalog/media/pdf/744053220.pdf
footprint WE-TPC-5828-LH (SMD Inductor, 2-Leads, Body 5.8x5.8x3.0 mm)
pins: 1, 2

## 744053221
designator L?
SMD Shielded Tiny Power Inductor WE-TPC, L = 220 µH; Inductance: 220 µH; DatasheetVersion: ver 8, Jan-2010; PackageVersion: 2010; PackageReference: WE-TPC-5828-LH; PackageDescription: SMD Inductor, 2-Leads, Body 5.8 x 5.8 mm; ComponentLink1Description: Manufacturer URL; ComponentLink1URL: http://www.we-online.com; ComponentLink2Description: Datasheet; ComponentLink2URL: http://www.we-online.de/katalog/media/pdf/744053221.pdf
footprint WE-TPC-5828-LH (SMD Inductor, 2-Leads, Body 5.8x5.8x3.0 mm)
pins: 1, 2

## 744053270
designator L?
SMD Shielded Tiny Power Inductor WE-TPC, L = 27.0 µH; Inductance: 27.0 µH; DatasheetVersion: ver 6, Aug-2010; PackageVersion: 2010; PackageReference: WE-TPC-5828-LH; PackageDescription: SMD Inductor, 2-Leads, Body 5.8 x 5.8 mm; ComponentLink1Description: Manufacturer URL; ComponentLink1URL: http://www.we-online.com; ComponentLink2Description: Datasheet; ComponentLink2URL: http://www.we-online.de/katalog/media/pdf/744053270.pdf
footprint WE-TPC-5828-LH (SMD Inductor, 2-Leads, Body 5.8x5.8x3.0 mm)
pins: 1, 2

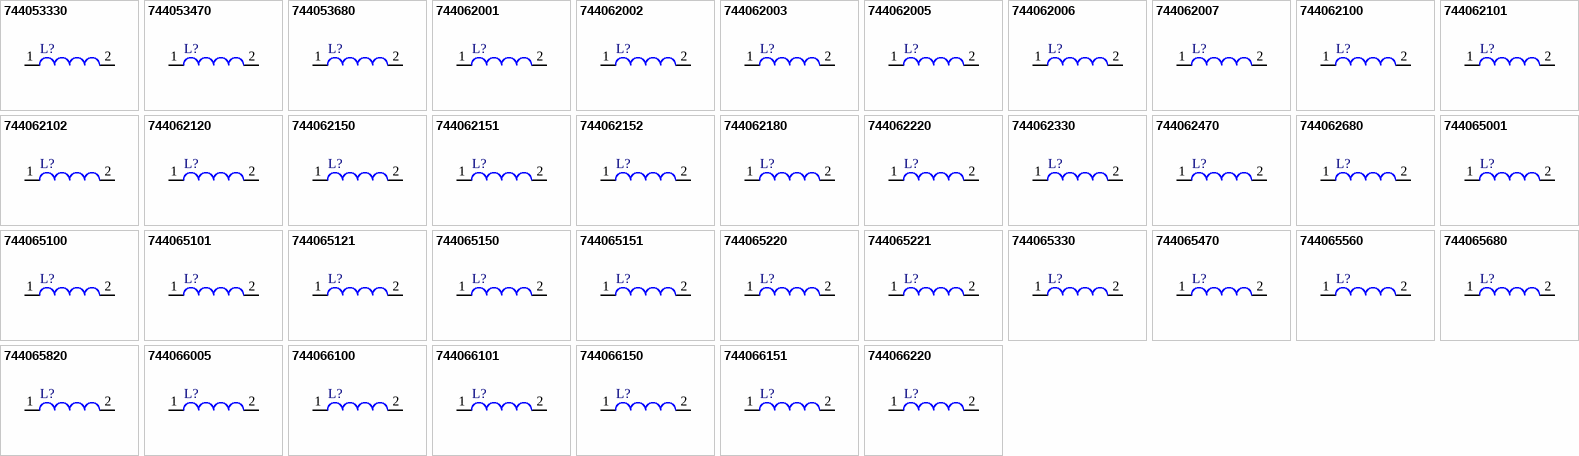
[diagram p9: symbols 744053330 to 744066220]

## 744053330
designator L?
SMD Shielded Tiny Power Inductor WE-TPC, L = 33.0 µH; Inductance: 33.0 µH; DatasheetVersion: ver 6, Aug-2010; PackageVersion: 2010; PackageReference: WE-TPC-5828-LH; PackageDescription: SMD Inductor, 2-Leads, Body 5.8 x 5.8 mm; ComponentLink1Description: Manufacturer URL; ComponentLink1URL: http://www.we-online.com; ComponentLink2Description: Datasheet; ComponentLink2URL: http://www.we-online.de/katalog/media/pdf/744053330.pdf
footprint WE-TPC-5828-LH (SMD Inductor, 2-Leads, Body 5.8x5.8x3.0 mm)
pins: 1, 2

## 744053470
designator L?
SMD Shielded Tiny Power Inductor WE-TPC, L = 47.0 µH; Inductance: 47.0 µH; DatasheetVersion: ver 6, Aug-2010; PackageVersion: 2010; PackageReference: WE-TPC-5828-LH; PackageDescription: SMD Inductor, 2-Leads, Body 5.8 x 5.8 mm; ComponentLink1Description: Manufacturer URL; ComponentLink1URL: http://www.we-online.com; ComponentLink2Description: Datasheet; ComponentLink2URL: http://www.we-online.de/katalog/media/pdf/744053470.pdf
footprint WE-TPC-5828-LH (SMD Inductor, 2-Leads, Body 5.8x5.8x3.0 mm)
pins: 1, 2

## 744053680
designator L?
SMD Shielded Tiny Power Inductor WE-TPC, L = 68.0 µH; Inductance: 68.0 µH; DatasheetVersion: ver 6, Aug-2010; PackageVersion: 2010; PackageReference: WE-TPC-5828-LH; PackageDescription: SMD Inductor, 2-Leads, Body 5.8 x 5.8 mm; ComponentLink1Description: Manufacturer URL; ComponentLink1URL: http://www.we-online.com; ComponentLink2Description: Datasheet; ComponentLink2URL: http://www.we-online.de/katalog/media/pdf/744053680.pdf
footprint WE-TPC-5828-LH (SMD Inductor, 2-Leads, Body 5.8x5.8x3.0 mm)
pins: 1, 2

## 744062001
designator L?
SMD Shielded Tiny Power Inductor WE-TPC, L = 1.00 µH; Inductance: 1.00 µH; DatasheetVersion: ver 5, Jan-2009; PackageVersion: 2009; PackageReference: WE-TPC-6823-X; PackageDescription: SMD Inductor, 2-Leads, Body 6.8 x 6.8 mm; ComponentLink1Description: Manufacturer URL; ComponentLink1URL: http://www.we-online.com; ComponentLink2Description: Datasheet; ComponentLink2URL: http://www.we-online.de/katalog/media/pdf/744062001.pdf
footprint WE-TPC-6823-X (SMD Inductor, 2-Leads, Body 6.8x6.8x2.5 mm)
pins: 1, 2

## 744062002
designator L?
SMD Shielded Tiny Power Inductor WE-TPC, L = 2.20 µH; Inductance: 2.20 µH; DatasheetVersion: ver 5, Jan-2009; PackageVersion: 2009; PackageReference: WE-TPC-6823-X; PackageDescription: SMD Inductor, 2-Leads, Body 6.8 x 6.8 mm; ComponentLink1Description: Manufacturer URL; ComponentLink1URL: http://www.we-online.com; ComponentLink2Description: Datasheet; ComponentLink2URL: http://www.we-online.de/katalog/media/pdf/744062002.pdf
footprint WE-TPC-6823-X (SMD Inductor, 2-Leads, Body 6.8x6.8x2.5 mm)
pins: 1, 2

## 744062003
designator L?
SMD Shielded Tiny Power Inductor WE-TPC, L = 3.30 µH; Inductance: 3.30 µH; DatasheetVersion: ver 5, Jan-2009; PackageVersion: 2009; PackageReference: WE-TPC-6823-X; PackageDescription: SMD Inductor, 2-Leads, Body 6.8 x 6.8 mm; ComponentLink1Description: Manufacturer URL; ComponentLink1URL: http://www.we-online.com; ComponentLink2Description: Datasheet; ComponentLink2URL: http://www.we-online.de/katalog/media/pdf/744062003.pdf
footprint WE-TPC-6823-X (SMD Inductor, 2-Leads, Body 6.8x6.8x2.5 mm)
pins: 1, 2

## 744062005
designator L?
SMD Shielded Tiny Power Inductor WE-TPC, L = 5.00 µH; Inductance: 5.00 µH; DatasheetVersion: ver 5, Jan-2009; PackageVersion: 2009; PackageReference: WE-TPC-6823-X; PackageDescription: SMD Inductor, 2-Leads, Body 6.8 x 6.8 mm; ComponentLink1Description: Manufacturer URL; ComponentLink1URL: http://www.we-online.com; ComponentLink2Description: Datasheet; ComponentLink2URL: http://www.we-online.de/katalog/media/pdf/744062005.pdf
footprint WE-TPC-6823-X (SMD Inductor, 2-Leads, Body 6.8x6.8x2.5 mm)
pins: 1, 2

## 744062006
designator L?
SMD Shielded Tiny Power Inductor WE-TPC, L = 6.20 µH; Inductance: 6.20 µH; DatasheetVersion: ver 5, Jan-2009; PackageVersion: 2009; PackageReference: WE-TPC-6823-X; PackageDescription: SMD Inductor, 2-Leads, Body 6.8 x 6.8 mm; ComponentLink1Description: Manufacturer URL; ComponentLink1URL: http://www.we-online.com; ComponentLink2Description: Datasheet; ComponentLink2URL: http://www.we-online.de/katalog/media/pdf/744062006.pdf
footprint WE-TPC-6823-X (SMD Inductor, 2-Leads, Body 6.8x6.8x2.5 mm)
pins: 1, 2

## 744062007
designator L?
SMD Shielded Tiny Power Inductor WE-TPC, L = 7.50 µH; Inductance: 7.50 µH; DatasheetVersion: ver 5, Jan-2009; PackageVersion: 2009; PackageReference: WE-TPC-6823-X; PackageDescription: SMD Inductor, 2-Leads, Body 6.8 x 6.8 mm; ComponentLink1Description: Manufacturer URL; ComponentLink1URL: http://www.we-online.com; ComponentLink2Description: Datasheet; ComponentLink2URL: http://www.we-online.de/katalog/media/pdf/744062007.pdf
footprint WE-TPC-6823-X (SMD Inductor, 2-Leads, Body 6.8x6.8x2.5 mm)
pins: 1, 2

## 744062100
designator L?
SMD Shielded Tiny Power Inductor WE-TPC, L = 10.0 µH; Inductance: 10.0 µH; DatasheetVersion: ver 5, Jan-2009; PackageVersion: 2009; PackageReference: WE-TPC-6823-X; PackageDescription: SMD Inductor, 2-Leads, Body 6.8 x 6.8 mm; ComponentLink1Description: Manufacturer URL; ComponentLink1URL: http://www.we-online.com; ComponentLink2Description: Datasheet; ComponentLink2URL: http://www.we-online.de/katalog/media/pdf/744062100.pdf
footprint WE-TPC-6823-X (SMD Inductor, 2-Leads, Body 6.8x6.8x2.5 mm)
pins: 1, 2

## 744062101
designator L?
SMD Shielded Tiny Power Inductor WE-TPC, L = 100 µH; Inductance: 100 µH; DatasheetVersion: ver 4, Apr-2008; PackageVersion: 2009; PackageReference: WE-TPC-6823-X; PackageDescription: SMD Inductor, 2-Leads, Body 6.8 x 6.8 mm; ComponentLink1Description: Manufacturer URL; ComponentLink1URL: http://www.we-online.com; ComponentLink2Description: Datasheet; ComponentLink2URL: http://www.we-online.de/katalog/media/pdf/744062101.pdf
footprint WE-TPC-6823-X (SMD Inductor, 2-Leads, Body 6.8x6.8x2.5 mm)
pins: 1, 2

## 744062102
designator L?
SMD Shielded Tiny Power Inductor WE-TPC, L = 1000 µH; Inductance: 1000 µH; DatasheetVersion: ver 4, Apr-2008; PackageVersion: 2009; PackageReference: WE-TPC-6823-X; PackageDescription: SMD Inductor, 2-Leads, Body 6.8 x 6.8 mm; ComponentLink1Description: Manufacturer URL; ComponentLink1URL: http://www.we-online.com; ComponentLink2Description: Datasheet; ComponentLink2URL: http://www.we-online.de/katalog/media/pdf/744062102.pdf
footprint WE-TPC-6823-X (SMD Inductor, 2-Leads, Body 6.8x6.8x2.5 mm)
pins: 1, 2

## 744062120
designator L?
SMD Shielded Tiny Power Inductor WE-TPC, L = 12.0 µH; Inductance: 12.0 µH; DatasheetVersion: ver 5, Jan-2009; PackageVersion: 2009; PackageReference: WE-TPC-6823-X; PackageDescription: SMD Inductor, 2-Leads, Body 6.8 x 6.8 mm; ComponentLink1Description: Manufacturer URL; ComponentLink1URL: http://www.we-online.com; ComponentLink2Description: Datasheet; ComponentLink2URL: http://www.we-online.de/katalog/media/pdf/744062120.pdf
footprint WE-TPC-6823-X (SMD Inductor, 2-Leads, Body 6.8x6.8x2.5 mm)
pins: 1, 2

## 744062150
designator L?
SMD Shielded Tiny Power Inductor WE-TPC, L = 15.0 µH; Inductance: 15.0 µH; DatasheetVersion: ver 5, Jan-2009; PackageVersion: 2009; PackageReference: WE-TPC-6823-X; PackageDescription: SMD Inductor, 2-Leads, Body 6.8 x 6.8 mm; ComponentLink1Description: Manufacturer URL; ComponentLink1URL: http://www.we-online.com; ComponentLink2Description: Datasheet; ComponentLink2URL: http://www.we-online.de/katalog/media/pdf/744062150.pdf
footprint WE-TPC-6823-X (SMD Inductor, 2-Leads, Body 6.8x6.8x2.5 mm)
pins: 1, 2

## 744062151
designator L?
SMD Shielded Tiny Power Inductor WE-TPC, L = 150 µH; Inductance: 150 µH; DatasheetVersion: ver 5, Jan-2009; PackageVersion: 2009; PackageReference: WE-TPC-6823-X; PackageDescription: SMD Inductor, 2-Leads, Body 6.8 x 6.8 mm; ComponentLink1Description: Manufacturer URL; ComponentLink1URL: http://www.we-online.com; ComponentLink2Description: Datasheet; ComponentLink2URL: http://www.we-online.de/katalog/media/pdf/744062151.pdf
footprint WE-TPC-6823-X (SMD Inductor, 2-Leads, Body 6.8x6.8x2.5 mm)
pins: 1, 2

## 744062152
designator L?
SMD Shielded Tiny Power Inductor WE-TPC, L = 1500 µH; Inductance: 1500 µH; DatasheetVersion: ver 5, Jan-2009; PackageVersion: 2009; PackageReference: WE-TPC-6823-X; PackageDescription: SMD Inductor, 2-Leads, Body 6.8 x 6.8 mm; ComponentLink1Description: Manufacturer URL; ComponentLink1URL: http://www.we-online.com; ComponentLink2Description: Datasheet; ComponentLink2URL: http://www.we-online.de/katalog/media/pdf/744062152.pdf
footprint WE-TPC-6823-X (SMD Inductor, 2-Leads, Body 6.8x6.8x2.5 mm)
pins: 1, 2

## 744062180
designator L?
SMD Shielded Tiny Power Inductor WE-TPC, L = 18.0 µH; Inductance: 18.0 µH; DatasheetVersion: ver 5, Jan-2009; PackageVersion: 2009; PackageReference: WE-TPC-6823-X; PackageDescription: SMD Inductor, 2-Leads, Body 6.8 x 6.8 mm; ComponentLink1Description: Manufacturer URL; ComponentLink1URL: http://www.we-online.com; ComponentLink2Description: Datasheet; ComponentLink2URL: http://www.we-online.de/katalog/media/pdf/744062180.pdf
footprint WE-TPC-6823-X (SMD Inductor, 2-Leads, Body 6.8x6.8x2.5 mm)
pins: 1, 2

## 744062220
designator L?
SMD Shielded Tiny Power Inductor WE-TPC, L = 22.0 µH; Inductance: 22.0 µH; DatasheetVersion: ver 5, Jan-2009; PackageVersion: 2009; PackageReference: WE-TPC-6823-X; PackageDescription: SMD Inductor, 2-Leads, Body 6.8 x 6.8 mm; ComponentLink1Description: Manufacturer URL; ComponentLink1URL: http://www.we-online.com; ComponentLink2Description: Datasheet; ComponentLink2URL: http://www.we-online.de/katalog/media/pdf/744062220.pdf
footprint WE-TPC-6823-X (SMD Inductor, 2-Leads, Body 6.8x6.8x2.5 mm)
pins: 1, 2

## 744062330
designator L?
SMD Shielded Tiny Power Inductor WE-TPC, L = 33.0 µH; Inductance: 33.0 µH; DatasheetVersion: ver 5, Jan-2009; PackageVersion: 2009; PackageReference: WE-TPC-6823-X; PackageDescription: SMD Inductor, 2-Leads, Body 6.8 x 6.8 mm; ComponentLink1Description: Manufacturer URL; ComponentLink1URL: http://www.we-online.com; ComponentLink2Description: Datasheet; ComponentLink2URL: http://www.we-online.de/katalog/media/pdf/744062330.pdf
footprint WE-TPC-6823-X (SMD Inductor, 2-Leads, Body 6.8x6.8x2.5 mm)
pins: 1, 2

## 744062470
designator L?
SMD Shielded Tiny Power Inductor WE-TPC, L = 47.0 µH; Inductance: 47.0 µH; DatasheetVersion: ver 5, Jan-2009; PackageVersion: 2009; PackageReference: WE-TPC-6823-X; PackageDescription: SMD Inductor, 2-Leads, Body 6.8 x 6.8 mm; ComponentLink1Description: Manufacturer URL; ComponentLink1URL: http://www.we-online.com; ComponentLink2Description: Datasheet; ComponentLink2URL: http://www.we-online.de/katalog/media/pdf/744062470.pdf
footprint WE-TPC-6823-X (SMD Inductor, 2-Leads, Body 6.8x6.8x2.5 mm)
pins: 1, 2

## 744062680
designator L?
SMD Shielded Tiny Power Inductor WE-TPC, L = 68.0 µH; Inductance: 68.0 µH; DatasheetVersion: ver 5, Jan-2009; PackageVersion: 2009; PackageReference: WE-TPC-6823-X; PackageDescription: SMD Inductor, 2-Leads, Body 6.8 x 6.8 mm; ComponentLink1Description: Manufacturer URL; ComponentLink1URL: http://www.we-online.com; ComponentLink2Description: Datasheet; ComponentLink2URL: http://www.we-online.de/katalog/media/pdf/744062680.pdf
footprint WE-TPC-6823-X (SMD Inductor, 2-Leads, Body 6.8x6.8x2.5 mm)
pins: 1, 2

## 744065001
designator L?
SMD Shielded Tiny Power Inductor WE-TPC, L = 1.00 µH; Inductance: 1.00 µH; DatasheetVersion: ver 3, Nov-2008; PackageVersion: 2008; PackageReference: WE-TPC-1028-XL; PackageDescription: SMD Inductor, 2-Leads, Body 10.0 x 10.0 mm; ComponentLink1Description: Manufacturer URL; ComponentLink1URL: http://www.we-online.com; ComponentLink2Description: Datasheet; ComponentLink2URL: http://www.we-online.de/katalog/media/pdf/744065001.pdf
footprint WE-TPC-1028-XL (SMD Inductor, 2-Leads, Body 10.0x10.0x3.1 mm)
pins: 1, 2

## 744065100
designator L?
SMD Shielded Tiny Power Inductor WE-TPC, L = 10.0 µH; Inductance: 10.0 µH; DatasheetVersion: ver 3, Nov-2008; PackageVersion: 2008; PackageReference: WE-TPC-1028-XL; PackageDescription: SMD Inductor, 2-Leads, Body 10.0 x 10.0 mm; ComponentLink1Description: Manufacturer URL; ComponentLink1URL: http://www.we-online.com; ComponentLink2Description: Datasheet; ComponentLink2URL: http://www.we-online.de/katalog/media/pdf/744065100.pdf
footprint WE-TPC-1028-XL (SMD Inductor, 2-Leads, Body 10.0x10.0x3.1 mm)
pins: 1, 2

## 744065101
designator L?
SMD Shielded Tiny Power Inductor WE-TPC, L = 100 µH; Inductance: 100 µH; DatasheetVersion: ver 3, Nov-2008; PackageVersion: 2008; PackageReference: WE-TPC-1028-XL; PackageDescription: SMD Inductor, 2-Leads, Body 10.0 x 10.0 mm; ComponentLink1Description: Manufacturer URL; ComponentLink1URL: http://www.we-online.com; ComponentLink2Description: Datasheet; ComponentLink2URL: http://www.we-online.de/katalog/media/pdf/744065101.pdf
footprint WE-TPC-1028-XL (SMD Inductor, 2-Leads, Body 10.0x10.0x3.1 mm)
pins: 1, 2

## 744065121
designator L?
SMD Shielded Tiny Power Inductor WE-TPC, L = 120 µH; Inductance: 120 µH; DatasheetVersion: ver 3, Nov-2008; PackageVersion: 2008; PackageReference: WE-TPC-1028-XL; PackageDescription: SMD Inductor, 2-Leads, Body 10.0 x 10.0 mm; ComponentLink1Description: Manufacturer URL; ComponentLink1URL: http://www.we-online.com; ComponentLink2Description: Datasheet; ComponentLink2URL: http://www.we-online.de/katalog/media/pdf/744065121.pdf
footprint WE-TPC-1028-XL (SMD Inductor, 2-Leads, Body 10.0x10.0x3.1 mm)
pins: 1, 2